# Altium footprint library CONN_W2B_JST.PcbLib: 168 footprints (part 11 of 11)
Each footprint in its own frame and in the unit in brackets; x right, y up, seen from the top. Pads: shape width x height; smd on the part's side, far side on the other; paste and mask are expansions set on the pad; w line width, h text height; cw(c..) or ccw(c..) is an arc to the next point about the centre after c.
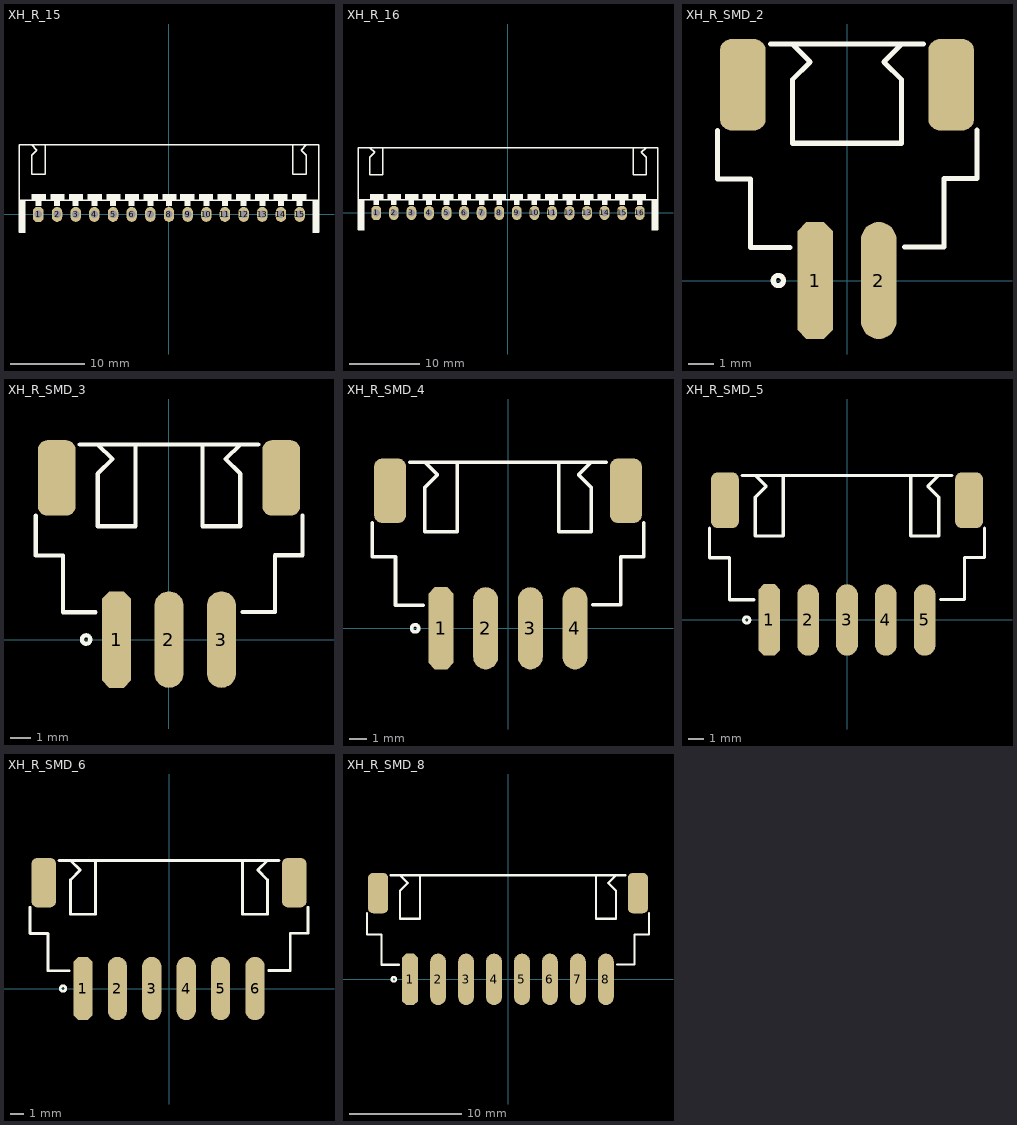
[diagram p10: the footprints below, top view; thin cyan lines are the x and y axes]

## XH_R_15 [mm] "JST-SxB-XH-A pitch: 2.5mm, 3A/250v, Righ Angle (Side Entry)"
pads (15):
  oct 1.4x2 hole 1: 1(-17.5,0)
  oval 1.4x2 hole 1: 2(-15,0) 3(-12.5,0) 4(-10,0) 5(-7.5,0) 6(-5,0) 7(-2.5,0) 8(0,0) 9(2.5,0) 10(5,0) 11(7.5,0) 12(10,0) 13(12.5,0) 14(15,0) 15(17.5,0)
Top Overlay:
  region: 5.4,1.9 4.6,1.9 4.6,1.1 5.4,1.1
  region: 5.9,2.7 4,2.7 4,1.9 5.9,1.9
  region: 8.4,2.7 6.5,2.7 6.5,1.9 8.4,1.9
  region: 10.9,2.7 9,2.7 9,1.9 10.9,1.9
  region: 13.4,2.7 11.5,2.7 11.5,1.9 13.4,1.9
  region: 15.9,2.7 14,2.7 14,1.9 15.9,1.9
  region: 18.4,2.7 16.5,2.7 16.5,1.9 18.4,1.9
  region: 7.9,1.9 7.1,1.9 7.1,1.1 7.9,1.1
  region: 10.4,1.9 9.6,1.9 9.6,1.1 10.4,1.1
  region: 12.9,1.9 12.1,1.9 12.1,1.1 12.9,1.1
  region: 15.4,1.9 14.6,1.9 14.6,1.1 15.4,1.1
  region: 17.9,1.9 17.1,1.9 17.1,1.1 17.9,1.1
  region: 3.4,2.7 1.5,2.7 1.5,1.9 3.4,1.9
  region: 2.9,1.9 2.1,1.9 2.1,1.1 2.9,1.1
  rectangle: -5.4,1.1 -4.6,1.9
  rectangle: -5.9,1.9 -4,2.7
  rectangle: -8.4,1.9 -6.5,2.7
  rectangle: -10.9,1.9 -9,2.7
  rectangle: -13.4,1.9 -11.5,2.7
  rectangle: -15.9,1.9 -14,2.7
  rectangle: -18.4,1.9 -16.5,2.7
  rectangle: -7.9,1.1 -7.1,1.9
  rectangle: -10.4,1.1 -9.6,1.9
  rectangle: -12.9,1.1 -12.1,1.9
  rectangle: -15.4,1.1 -14.6,1.9
  rectangle: -17.9,1.1 -17.1,1.9
  rectangle: -20.1,-2.5 -19.2,1.9
  region: 20.1,1.9 19.2,1.9 19.2,-2.5 20.1,-2.5
  rectangle: -3.4,1.9 -1.5,2.7
  rectangle: -2.9,1.1 -2.1,1.9
  rectangle: -0.9,1.9 1,2.7
  rectangle: -0.4,1.1 0.4,1.9
  lines w0.2: -20.1,-2.4 -20.1,9.3 20.1,9.3 20.1,-2.4 ; -20.1,1.9 20.1,1.9 ; -18.4,9.3 -17.7,8.6 -18.4,7.9 ; -16.6,9.3 -16.6,5.4 -18.4,5.4 -18.4,7.9 ; 16.6,9.3 16.6,5.4 18.4,5.4 18.4,7.9 ; 18.4,9.3 17.7,8.6 18.4,7.9 ; -18.4,7.9 -18.4,7.9 ; 18.4,7.9 18.4,7.9
3D body "S15B-XH-A.STEP": height 6.1, standoff -3.4, extent -19.95,-2.3 19.95,9.2

## XH_R_16 [mm] "JST-SxB-XH-A pitch: 2.5mm, 3A/250v, Righ Angle (Side Entry)"
pads (16):
  oct 1.4x2 hole 1: 1(-18.75,0)
  oval 1.4x2 hole 1: 2(-16.25,0) 3(-13.75,0) 4(-11.25,0) 5(-8.75,0) 6(-6.25,0) 7(-3.75,0) 8(-1.25,0) 9(1.25,0) 10(3.75,0) 11(6.25,0) 12(8.75,0) 13(11.25,0) 14(13.75,0) 15(16.25,0) 16(18.75,0)
Top Overlay:
  region: 6.65,1.9 5.85,1.9 5.85,1.1 6.65,1.1
  region: 7.15,2.7 5.25,2.7 5.25,1.9 7.15,1.9
  region: 9.65,2.7 7.75,2.7 7.75,1.9 9.65,1.9
  region: 12.15,2.7 10.25,2.7 10.25,1.9 12.15,1.9
  region: 14.65,2.7 12.75,2.7 12.75,1.9 14.65,1.9
  region: 17.15,2.7 15.25,2.7 15.25,1.9 17.15,1.9
  region: 19.65,2.7 17.75,2.7 17.75,1.9 19.65,1.9
  region: 9.15,1.9 8.35,1.9 8.35,1.1 9.15,1.1
  region: 11.65,1.9 10.85,1.9 10.85,1.1 11.65,1.1
  region: 14.15,1.9 13.35,1.9 13.35,1.1 14.15,1.1
  region: 16.65,1.9 15.85,1.9 15.85,1.1 16.65,1.1
  region: 19.15,1.9 18.35,1.9 18.35,1.1 19.15,1.1
  region: 4.65,2.7 2.75,2.7 2.75,1.9 4.65,1.9
  region: 4.15,1.9 3.35,1.9 3.35,1.1 4.15,1.1
  region: 2.15,2.7 0.25,2.7 0.25,1.9 2.15,1.9
  region: 1.65,1.9 0.85,1.9 0.85,1.1 1.65,1.1
  rectangle: -6.65,1.1 -5.85,1.9
  rectangle: -7.15,1.9 -5.25,2.7
  rectangle: -9.65,1.9 -7.75,2.7
  rectangle: -12.15,1.9 -10.25,2.7
  rectangle: -14.65,1.9 -12.75,2.7
  rectangle: -17.15,1.9 -15.25,2.7
  rectangle: -19.65,1.9 -17.75,2.7
  rectangle: -9.15,1.1 -8.35,1.9
  rectangle: -11.65,1.1 -10.85,1.9
  rectangle: -14.15,1.1 -13.35,1.9
  rectangle: -16.65,1.1 -15.85,1.9
  rectangle: -19.15,1.1 -18.35,1.9
  rectangle: -21.35,-2.5 -20.45,1.9
  region: 21.35,1.9 20.45,1.9 20.45,-2.5 21.35,-2.5
  rectangle: -4.65,1.9 -2.75,2.7
  rectangle: -4.15,1.1 -3.35,1.9
  rectangle: -2.15,1.9 -0.25,2.7
  rectangle: -1.65,1.1 -0.85,1.9
  lines w0.2: -21.35,-2.4 -21.35,9.3 21.35,9.3 21.35,-2.4 ; -21.35,1.9 21.35,1.9 ; -19.65,9.3 -18.95,8.6 -19.65,7.9 ; -17.85,9.3 -17.85,5.4 -19.65,5.4 -19.65,7.9 ; 17.85,9.3 17.85,5.4 19.65,5.4 19.65,7.9 ; 19.65,9.3 18.95,8.6 19.65,7.9 ; -19.65,7.9 -19.65,7.9 ; 19.65,7.9 19.65,7.9
3D body "S16B-XH-A.STEP": height 6.1, standoff -3.4, extent -21.2,-2.3 21.2,9.2

## XH_R_SMD_2 [mm] "JST-SxB-XH-SM4-TB pitch: 2.5mm, 3A/250v, Righ Angle (Side Entry), SMD"
pads (4):
  oct 1.4x4.6 smd: 1(-1.25,0)
  oval 1.4x4.6 smd: 2(1.25,0)
  rrect50% 1.8x3.6 smd: ""(-4.1,7.7) ""(4.1,7.7)
Top Overlay:
  circle w0.2: c-2.7,0 r0.2
  lines w0.2: -5.1,5.9 -5.1,4 -3.8,4 -3.8,1.3 -2.25,1.3 ; -3,9.3 3,9.3 ; -2.15,9.3 -1.45,8.6 -2.15,7.9 ; 2.15,9.3 1.45,8.6 2.15,7.9 ; 2.257,1.314 3.807,1.314 3.807,4.014 5.107,4.014 5.107,5.914 ; -2.15,7.9 -2.15,7.9 ; -2.15,7.9 -2.15,5.4 2.15,5.4 2.15,7.9 ; 2.15,7.9 2.15,7.9
3D body "S2B-XH-SM4-TB.STEP": height 6, standoff 0, extent -5,-1 5,9.2

## XH_R_SMD_3 [mm] "JST-SxB-XH-SM4-TB pitch: 2.5mm, 3A/250v, Righ Angle (Side Entry), SMD"
pads (5):
  oct 1.4x4.6 smd: 1(-2.5,0)
  oval 1.4x4.6 smd: 2(0,0) 3(2.5,0)
  rrect50% 1.8x3.6 smd: ""(-5.35,7.7) ""(5.35,7.7)
Top Overlay:
  circle w0.2: c-3.95,0 r0.2
  lines w0.2: -6.35,5.9 -6.35,4 -5.05,4 -5.05,1.3 -3.5,1.3 ; -4.25,9.3 4.25,9.3 ; -3.4,9.3 -2.7,8.6 -3.4,7.9 ; -1.6,9.3 -1.6,5.4 -3.4,5.4 -3.4,7.9 ; 1.6,9.3 1.6,5.4 3.4,5.4 3.4,7.9 ; 3.4,9.3 2.7,8.6 3.4,7.9 ; 3.507,1.314 5.057,1.314 5.057,4.014 6.357,4.014 6.357,5.914 ; -3.4,7.9 -3.4,7.9 ; 3.4,7.9 3.4,7.9
3D body "S3B-XH-SM4-TB.STEP": height 6, standoff 0, extent -6.25,-1 6.25,9.2

## XH_R_SMD_4 [mm] "JST-SxB-XH-SM4-TB pitch: 2.5mm, 3A/250v, Righ Angle (Side Entry), SMD"
pads (6):
  oct 1.4x4.6 smd: 1(-3.75,0)
  oval 1.4x4.6 smd: 2(-1.25,0) 3(1.25,0) 4(3.75,0)
  rrect50% 1.8x3.6 smd: ""(-6.6,7.7) ""(6.6,7.7)
Top Overlay:
  circle w0.2: c-5.2,0 r0.2
  lines w0.2: -7.6,5.9 -7.6,4 -6.3,4 -6.3,1.3 -4.75,1.3 ; -5.5,9.3 5.5,9.3 ; -4.65,9.3 -3.95,8.6 -4.65,7.9 ; -2.85,9.3 -2.85,5.4 -4.65,5.4 -4.65,7.9 ; 2.85,9.3 2.85,5.4 4.65,5.4 4.65,7.9 ; 4.65,9.3 3.95,8.6 4.65,7.9 ; 4.757,1.314 6.307,1.314 6.307,4.014 7.607,4.014 7.607,5.914 ; -4.65,7.9 -4.65,7.9 ; 4.65,7.9 4.65,7.9
3D body "S4B-XH-SM4-TB.STEP": height 6, standoff 0, extent -7.5,-1 7.5,9.2

## XH_R_SMD_5 [mm] "JST-SxB-XH-SM4-TB pitch: 2.5mm, 3A/250v, Righ Angle (Side Entry), SMD"
pads (7):
  oct 1.4x4.6 smd: 1(-5,0)
  oval 1.4x4.6 smd: 2(-2.5,0) 3(0,0) 4(2.5,0) 5(5,0)
  rrect50% 1.8x3.6 smd: ""(-7.85,7.7) ""(7.85,7.7)
Top Overlay:
  circle w0.2: c-6.45,0 r0.2
  lines w0.2: -8.85,5.9 -8.85,4 -7.55,4 -7.55,1.3 -6,1.3 ; -6.75,9.3 6.75,9.3 ; -5.9,9.3 -5.2,8.6 -5.9,7.9 ; -4.1,9.3 -4.1,5.4 -5.9,5.4 -5.9,7.9 ; 4.1,9.3 4.1,5.4 5.9,5.4 5.9,7.9 ; 5.9,9.3 5.2,8.6 5.9,7.9 ; 6.007,1.314 7.557,1.314 7.557,4.014 8.857,4.014 8.857,5.914 ; -5.9,7.9 -5.9,7.9 ; 5.9,7.9 5.9,7.9
3D body "S5B-XH-SM4-TB.STEP": height 6, standoff 0, extent -8.75,-1.4 8.75,9.2

## XH_R_SMD_6 [mm] "JST-SxB-XH-SM4-TB pitch: 2.5mm, 3A/250v, Righ Angle (Side Entry), SMD"
pads (8):
  oct 1.4x4.6 smd: 1(-6.25,0)
  oval 1.4x4.6 smd: 2(-3.75,0) 3(-1.25,0) 4(1.25,0) 5(3.75,0) 6(6.25,0)
  rrect50% 1.8x3.6 smd: ""(-9.1,7.7) ""(9.1,7.7)
Top Overlay:
  circle w0.2: c-7.7,0 r0.2
  lines w0.2: -10.1,5.9 -10.1,4 -8.8,4 -8.8,1.3 -7.25,1.3 ; -8,9.3 8,9.3 ; -7.15,9.3 -6.45,8.6 -7.15,7.9 ; -5.35,9.3 -5.35,5.4 -7.15,5.4 -7.15,7.9 ; 5.35,9.3 5.35,5.4 7.15,5.4 7.15,7.9 ; 7.15,9.3 6.45,8.6 7.15,7.9 ; 7.257,1.314 8.807,1.314 8.807,4.014 10.107,4.014 10.107,5.914 ; -7.15,7.9 -7.15,7.9 ; 7.15,7.9 7.15,7.9
3D body "S6B-XH-SM4-TB.STEP": height 6, standoff 0, extent -10,-1 10,9.2

## XH_R_SMD_8 [mm] "JST-SxB-XH-SM4-TB pitch: 2.5mm, 3A/250v, Righ Angle (Side Entry), SMD"
height 6
pads (10):
  oct 1.4x4.6 smd: 1(-8.75,0)
  oval 1.4x4.6 smd: 2(-6.25,0) 3(-3.75,0) 4(-1.25,0) 5(1.25,0) 6(3.75,0) 7(6.25,0) 8(8.75,0)
  rrect50% 1.8x3.6 smd: ""(-11.6,7.7) ""(11.6,7.7)
Top Overlay:
  circle w0.2: c-10.2,0 r0.2
  lines w0.2: -12.6,5.9 -12.6,4 -11.3,4 -11.3,1.3 -9.75,1.3 ; -10.5,9.3 10.5,9.3 ; -9.65,9.3 -8.95,8.6 -9.65,7.9 ; -7.85,9.3 -7.85,5.4 -9.65,5.4 -9.65,7.9 ; 7.85,9.3 7.85,5.4 9.65,5.4 9.65,7.9 ; 9.65,9.3 8.95,8.6 9.65,7.9 ; 9.757,1.314 11.307,1.314 11.307,4.014 12.607,4.014 12.607,5.914 ; -9.65,7.9 -9.65,7.9 ; 9.65,7.9 9.65,7.9
3D body "S8B-XH-SM4-TB.STEP": height 6, standoff 0, extent -12.5,-1 12.5,9.2